# EAGLE library part FX18_60S_0_8SV15 (library con-hirose)
High Speed Transmission, 0.8 mm Pitch Connectors for PCB Connections
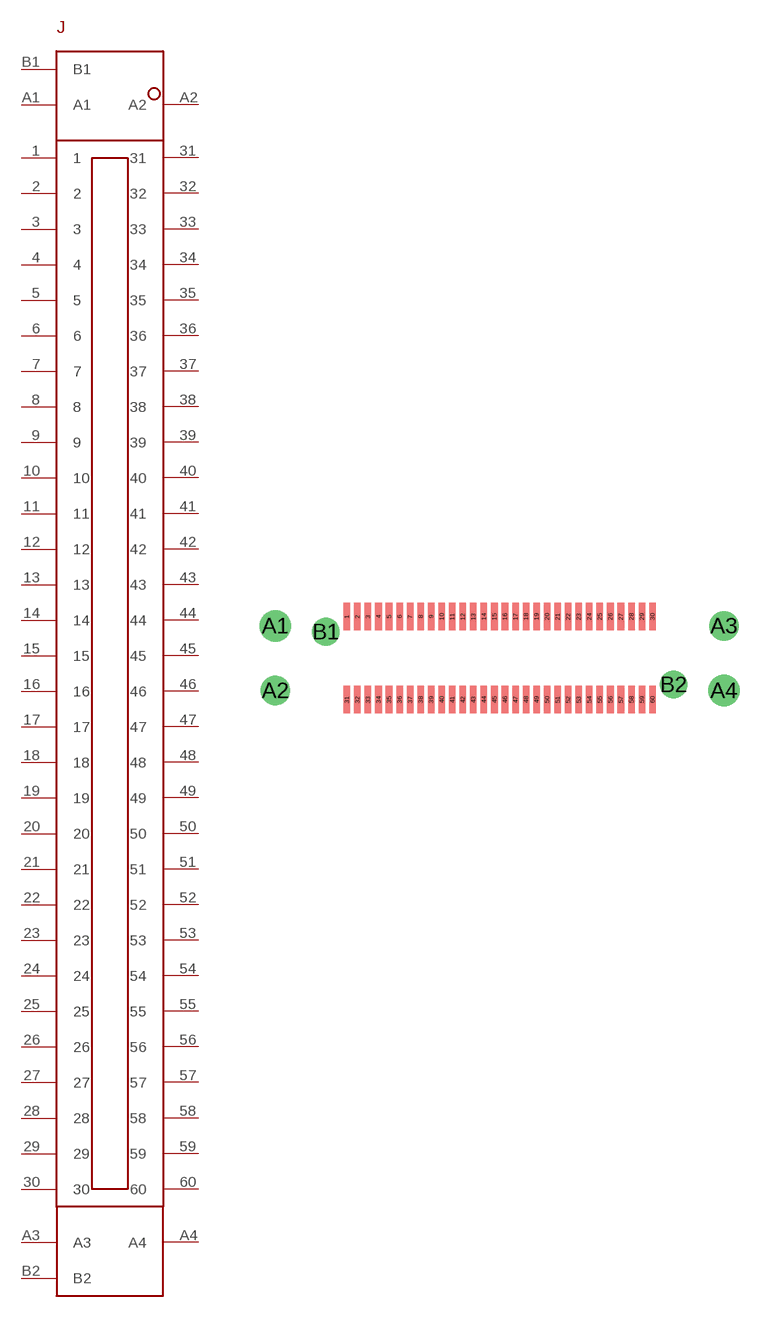
[diagram p65: symbol with the pads of FX18_60S_0_8SV15; footprint FX18_60S_0_8SV15]

Designator prefix J

## FX18_60S_0_8SV15  [FX18_60S_0_8SV15]
1  1
2  2
3  3
4  4
5  5
6  6
7  7
8  8
9  9
10  10
11  11
12  12
13  13
14  14
15  15
16  16
17  17
18  18
19  19
20  20
21  21
22  22
23  23
24  24
25  25
26  26
27  27
28  28
29  29
30  30
31  31
32  32
33  33
34  34
35  35
36  36
37  37
38  38
39  39
40  40
41  41
42  42
43  43
44  44
45  45
46  46
47  47
48  48
49  49
50  50
51  51
52  52
53  53
54  54
55  55
56  56
57  57
58  58
59  59
60  60
A1  A1
A2  A2
A3  A3
A4  A4
B1  B1
B2  B2

## Footprint FX18_60S_0_8SV15 (pad centres in mm)
smd 0.5 x 2.1: 1 -11.18,3.15; 2 -10.38,3.15; 3 -9.58,3.15; 4 -8.78,3.15; 5 -7.98,3.15; 6 -7.18,3.15; 7 -6.38,3.15; 8 -5.58,3.15; 9 -4.78,3.15; 10 -3.98,3.15; 11 -3.18,3.15; 12 -2.38,3.15; 13 -1.58,3.15; 14 -0.78,3.15; 15 0.02,3.15; 16 0.82,3.15; 17 1.62,3.15; 18 2.42,3.15; 19 3.22,3.15; 20 4.02,3.15; 21 4.82,3.15; 22 5.62,3.15; 23 6.42,3.15; 24 7.22,3.15; 25 8.02,3.15; 26 8.82,3.15; 27 9.62,3.15; 28 10.42,3.15; 29 11.22,3.15; 30 12.02,3.15; 31 -11.18,-3.15; 32 -10.38,-3.15; 33 -9.58,-3.15; 34 -8.78,-3.15; 35 -7.98,-3.15; 36 -7.18,-3.15; 37 -6.38,-3.15; 38 -5.58,-3.15; 39 -4.78,-3.15; 40 -3.98,-3.15; 41 -3.18,-3.15; 42 -2.38,-3.15; 43 -1.58,-3.15; 44 -0.78,-3.15; 45 0.02,-3.15; 46 0.82,-3.15; 47 1.62,-3.15; 48 2.42,-3.15; 49 3.22,-3.15; 50 4.02,-3.15; 51 4.82,-3.15; 52 5.62,-3.15; 53 6.42,-3.15; 54 7.22,-3.15; 55 8.02,-3.15; 56 8.82,-3.15; 57 9.62,-3.15; 58 10.42,-3.15; 59 11.22,-3.15; 60 12.02,-3.15
drill 1.6: A1 -16.605,2.45; A4 17.445,-2.45
drill 1.5: A2 -16.605,-2.45; A3 17.445,2.45
drill 1.4: B1 -12.78,2; B2 13.62,-2